# Altium footprint library FTS-111-01-F-D.PcbLib: 1 footprints
Each footprint in its own frame and in the unit in brackets; x right, y up, seen from the top. Pads: shape width x height; smd on the part's side, far side on the other; paste and mask are expansions set on the pad; w line width, h text height; cw(c..) or ccw(c..) is an arc to the next point about the centre after c.
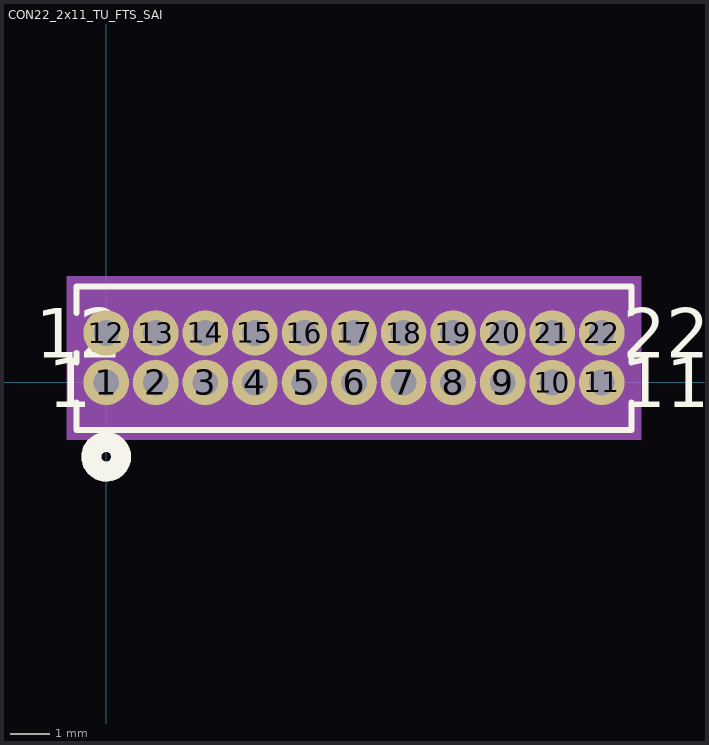
[diagram p0: the footprint, top view; thin cyan lines are the x and y axes]

## CON22_2x11_TU_FTS_SAI [mil]
pads (22):
  round 46 hole 26: 1(0,0) 2(50,0) 3(100,0) 4(150,0) 5(200,0) 6(250,0) 7(300,0) 8(350,0) 9(400,0) 10(450,0) 11(500,0) 12(0,50) 13(50,50) 14(100,50) 15(150,50) 16(200,50) 17(250,50) 18(300,50) 19(350,50) 20(400,50) 21(450,50) 22(500,50)
Top Overlay:
  circle w20: c0,-75 r15
  lines w6: -30,-20.08 -30,-48 530,-48 530,-20.08 ; -30,20.08 -30,29.92 ; -30,70.08 -30,97 530,97 530,70.08 ; 530,20.08 530,29.92
  text "1" at -58.5,-25 h50
  text "12" at -71,25 h50
  text "11" at 521,-25 h50
  text "22" at 521,25 h50
Bottom Overlay:
  circle w20: c0,-75 r15
  text "1" at -33.5,-25 h50
  text "12" at -21,25 h50
  text "11" at 571,-25 h50
  text "22" at 571,25 h50
Mechanical 5:
  region: -40,107 540,107 540,-58 -40,-58
Mechanical 13:
  circle w20: c0,-75 r15
  lines w1: -25,-43 525,-43 525,92 -25,92 -25,-43
  text "1" at -58.5,-25 h50
  text "12" at -71,25 h50
  text "11" at 521,-25 h50
  text "22" at 521,25 h50
Mechanical 15:
  region: 535,102 -35,102 -35,-53 535,-53
  lines w6: -35,-53 -35,102 535,102 535,-53 -35,-53
3D body "CON22_2x11_TU_FTS_SAI.step": height 154.02, standoff -200, extent -25,-25 525,75